# Altium footprint library OLED_SSD1306_I2C.PcbLib: 1 footprints
Each footprint in its own frame and in the unit in brackets; x right, y up, seen from the top. Pads: shape width x height; smd on the part's side, far side on the other; paste and mask are expansions set on the pad; w line width, h text height; cw(c..) or ccw(c..) is an arc to the next point about the centre after c.
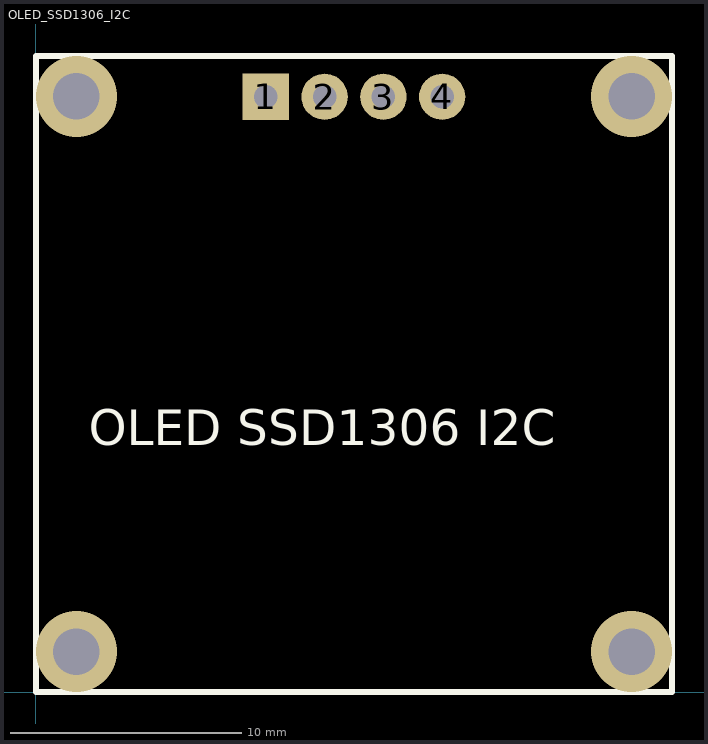
[diagram p0: the footprint, top view; thin cyan lines are the x and y axes]

## OLED_SSD1306_I2C [mm]
pads (4):
  rect 2x2 hole 1.016: 1(9.94,25.73)
  round 2 hole 1.016: 2(12.48,25.73) 3(15.02,25.73) 4(17.56,25.73)
via 1.75,1.75 diameter 3.5 hole 2
via 1.75,25.75 diameter 3.5 hole 2
via 25.75,25.75 diameter 3.5 hole 2
via 25.75,1.75 diameter 3.5 hole 2
Top Overlay:
  lines w0.254: 0,0 27.5,0 27.5,27.5 0,27.5 0,0
  text "OLED SSD1306 I2C" at 2.286,10.668 h1.52
3D body "OLED-128x64-0.96.step": height 1.47, standoff -9.37, extent 0.478,0.08 27.178,27.94